# EAGLE library part MCP16311 (library mcp16311_SOP65P490X110-8N)
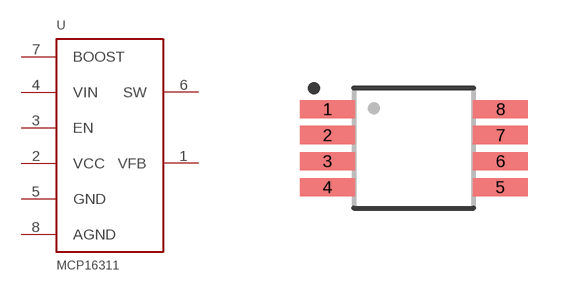
[diagram p0: symbol with the pads of SOP65P490X110-8N; footprint SOP65P490X110-8N]

Designator prefix -

## MCP16311  [SOP65P490X110-8N]
1  VFB
2  VCC
3  EN
4  VIN
5  GND
6  SW
7  BOOST
8  AGND

## Footprint SOP65P490X110-8N (pad centres in mm)
smd 1.38 x 0.45: 1 -2.165,0.975; 2 -2.165,0.325; 3 -2.165,-0.325; 4 -2.165,-0.975; 5 2.165,-0.975; 6 2.165,-0.325; 7 2.165,0.325; 8 2.165,0.975